# EAGLE library part SSW-110-02-S-Q (library con-samtec)
THROUGH-HOLE .025" SQ POST SOCKET Source: Samtec SSW.pdf
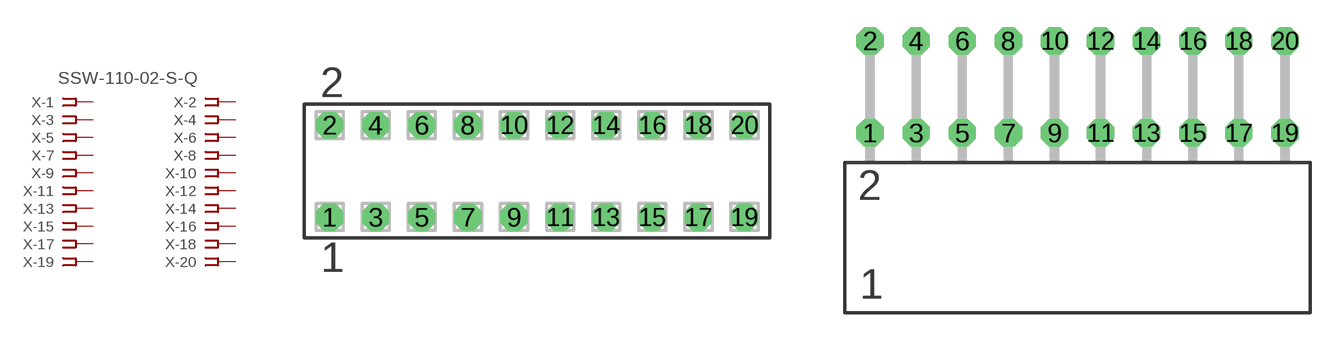
[diagram p138: symbol with the pads of SSW-110-02-S-Q; footprints SSW-110-02-S-Q, SSW-110-02-S-Q-RA]

Designator prefix X; gates -1=FPINV -2=FPIN -3=FPIN -4=FPIN -5=FPIN -6=FPIN -7=FPIN -8=FPIN -9=FPIN -10=FPIN -11=FPIN -12=FPIN -13=FPIN -14=FPIN -15=FPIN -16=FPIN -17=FPIN -18=FPIN -19=FPIN -20=FPIN

## SSW-110-02-S-Q  [SSW-110-02-S-Q]
1  -1:1  pas
2  -2:1  pas
3  -3:1  pas
4  -4:1  pas
5  -5:1  pas
6  -6:1  pas
7  -7:1  pas
8  -8:1  pas
9  -9:1  pas
10  -10:1  pas
11  -11:1  pas
12  -12:1  pas
13  -13:1  pas
14  -14:1  pas
15  -15:1  pas
16  -16:1  pas
17  -17:1  pas
18  -18:1  pas
19  -19:1  pas
20  -20:1  pas

## SSW-110-02-S-QRA  [SSW-110-02-S-Q-RA]
Pads as for SSW-110-02-S-Q

## Footprint SSW-110-02-S-Q (pad centres in mm)
THROUGH-HOLE .025" SQ POST SOCKET Source: Samtec SSW.pdf
drill 1 pad 1.5 octagon: 1 -11.43,-2.54; 2 -11.43,2.54; 3 -8.89,-2.54; 4 -8.89,2.54; 5 -6.35,-2.54; 6 -6.35,2.54; 7 -3.81,-2.54; 8 -3.81,2.54; 9 -1.27,-2.54; 10 -1.27,2.54; 11 1.27,-2.54; 12 1.27,2.54; 13 3.81,-2.54; 14 3.81,2.54; 15 6.35,-2.54; 16 6.35,2.54; 17 8.89,-2.54; 18 8.89,2.54; 19 11.43,-2.54; 20 11.43,2.54

## Footprint SSW-110-02-S-Q-RA (pad centres in mm)
THROUGH-HOLE .025" SQ POST SOCKET Source: Samtec SSW.pdf
drill 1 pad 1.5 octagon: 1 -11.43,1.524; 2 -11.43,6.604; 3 -8.89,1.524; 4 -8.89,6.604; 5 -6.35,1.524; 6 -6.35,6.604; 7 -3.81,1.524; 8 -3.81,6.604; 9 -1.27,1.524; 10 -1.27,6.604; 11 1.27,1.524; 12 1.27,6.604; 13 3.81,1.524; 14 3.81,6.604; 15 6.35,1.524; 16 6.35,6.604; 17 8.89,1.524; 18 8.89,6.604; 19 11.43,1.524; 20 11.43,6.604